# Altium integrated library LM2596S-5.0V.IntLib: 1 symbol
Pins are listed as number, name and electrical type; pins without a type are passive.

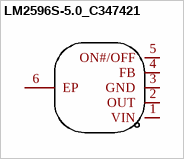
[diagram p0: symbol LM2596S-5.0_C347421]

## LM2596S-5.0_C347421
designator U??  (value not drawn)
Manufacturer: UMW(广东友台半导体); Add into BOM: yes; Function: 降压型; Synchronous Rectification: 否; Output Type: 固定; Number of Outputs: 1; Topology: 降压式; Input Voltage: 40V; Output Voltage: 5V; Output Current (Max): 3A; Switching Frequency: 150kHz; Symbol: LM2596S-5.0; Device: LM2596S-5.0_C347421; LCSC Part Name: 降压型 输入40V 输出5V 3A; Supplier Part: C347421; Manufacturer Part: LM2596S-5.0; Supplier Footprint: TO-263-5; JLCPCB Part Class: 扩展库; Datasheet: https://atta.szlcsc.com/upload/public/pdf/source/20211011/C7416AEF3194BD283261B8F2553C4145.pdf; Supplier: LCSC; Convert to PCB: yes; Operating Temperature: -40℃~+125℃@(TA)
footprint TO-263-5_L10.2-W8.9-P1.70-BR
pins: 1 VIN, 2 OUT, 3 GND, 4 FB, 5 ON#/OFF, 6 EP